# EAGLE library part UPD2114 (library Custom)
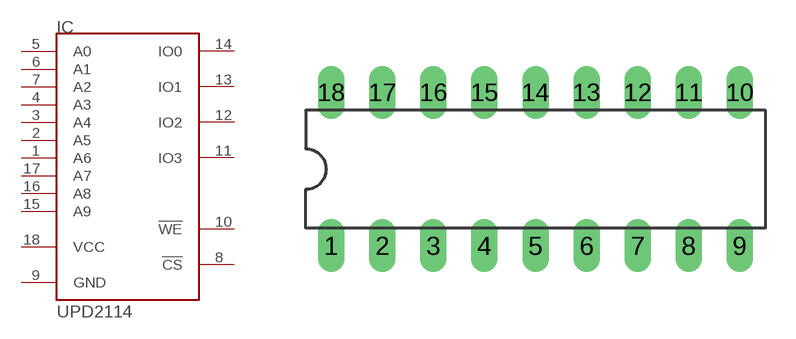
[diagram p71: symbol with the pads of DIL18; footprint DIL18]

Designator prefix IC

## UPD2114  [DIL18]
1  A6  in
2  A5  in
3  A4  in
4  A3
5  A0  in
6  A1  in
7  A2  in
8  !CS  in
9  GND  pwr
10  !WE  in
11  IO3
12  IO2
13  IO1
14  IO0
15  A9  in
16  A8  in
17  A7  in
18  VCC  pwr

## Footprint DIL18 (pad centres in mm)
Dual In Line Package
drill 0.813 long: 1 -10.16,-3.81; 2 -7.62,-3.81; 3 -5.08,-3.81; 4 -2.54,-3.81; 5 0,-3.81; 6 2.54,-3.81; 7 5.08,-3.81; 8 7.62,-3.81; 9 10.16,-3.81; 10 10.16,3.81; 11 7.62,3.81; 12 5.08,3.81; 13 2.54,3.81; 14 0,3.81; 15 -2.54,3.81; 16 -5.08,3.81; 17 -7.62,3.81; 18 -10.16,3.81